# EAGLE library part USB-J2 (library dimrobotics)
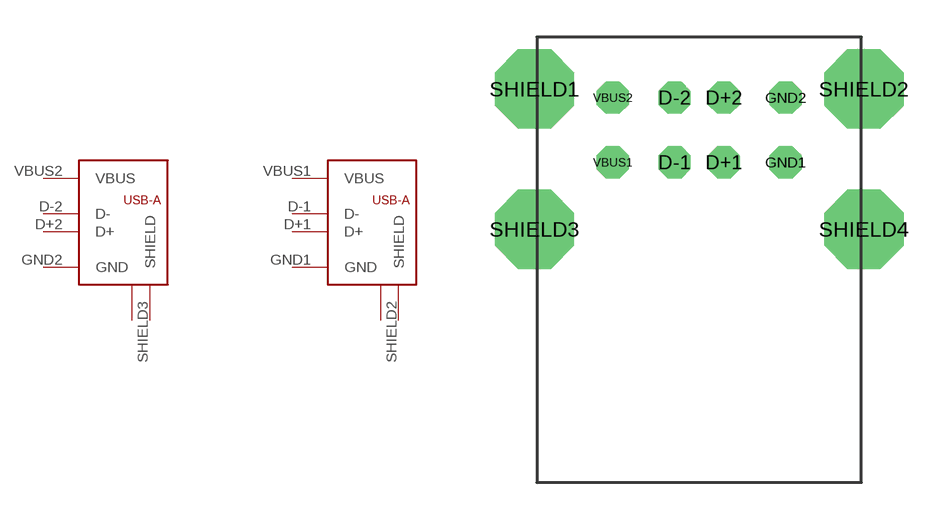
[diagram p7: symbol with the pads of USB-2J; footprint USB-2J]

Designator prefix -; gates G$1=USB-A G$2=USB-A

## USB-J2  [USB-2J]
D+1  G$2:D+
D+2  G$1:D+
D-1  G$2:D-
D-2  G$1:D-
GND1  G$2:GND
GND2  G$1:GND
SHIELD1  G$2:SHIELD
SHIELD2  G$2:SHIELD
SHIELD3  G$1:SHIELD
SHIELD4  G$1:SHIELD
VBUS1  G$2:VBUS
VBUS2  G$1:VBUS

## Footprint USB-2J (pad centres in mm)
drill 0.8 octagon: D+1 1,0; D+2 1,2.62; D-1 -1,0; D-2 -1,2.62; GND1 3.5,0; GND2 3.5,2.62; VBUS1 -3.5,0; VBUS2 -3.5,2.62
drill 2.2 octagon: SHIELD1 -6.67,2.97; SHIELD2 6.67,2.97; SHIELD3 -6.67,-2.71; SHIELD4 6.67,-2.71